# Altium schematic symbol library jlcpcb_2025_04_inductors_extended_0201.schlib: 459 symbols (part 9 of 9)
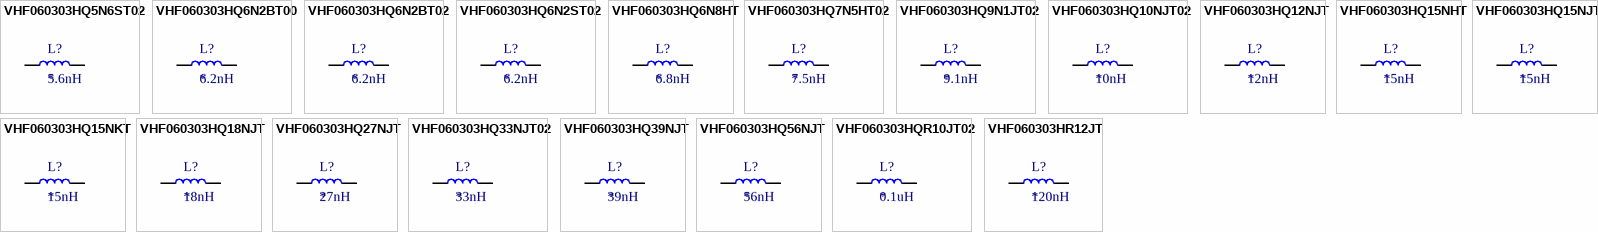
[diagram p19: symbols VHF060303HQ5N6ST02 to VHF060303HR12JT]

## VHF060303HQ6N2ST02
designator L?  Inductance: 6.2nH
Inductor, 6.2nH, 480mΩ, 250mA, SMD 0201; Manufacturer: FH (Guangdong Fenghua Advanced Tech); Manufacturer Part Number: VHF060303HQ6N2ST02; Self-Resonant Frequency: 5.1GHz; Q Factor: 14@500MHz; Package Size: 0201; JLCPCB Basic Part: No; JLCPCB Part Number: C516468; Supplier 1: LCSC; Category: Inductors; Supplier Part Number 1: C516468; Rated Current: 250mA; DC Resistance: 480mΩ; RoHS: Yes; ComponentLink1Description: Datasheet; ComponentLink1URL: https://wmsc.lcsc.com/wmsc/upload/file/pdf/v2/lcsc/2302231030_FH--Guangdong-Fenghua-Advanced-Tech-VHF060303HQ6N2ST02_C516468.pdf; ComponentLink2Description: JLCPCB Part URL; ComponentLink2URL: https://jlcpcb.com/partdetail/C516468; ComponentLink3Description: LCSC Part URL; ComponentLink3URL: https://lcsc.com/product-detail/Inductors-SMD_FH-Guangdong-Fenghua-Advanced-Tech-FH-Guangdong-Fenghua-Advanced-Tech-VHF060303HQ6N2ST02_C516468.html
footprint IND-0201 (0201 (0603M) Inductor)
pins: 1, 2

## VHF060303HQ6N8HT
designator L?  Inductance: 6.8nH
Inductor, 6.8nH, ±3%, 500mΩ, 200mA, SMD 0201; Manufacturer: FH (Guangdong Fenghua Advanced Tech); Manufacturer Part Number: VHF060303HQ6N8HT; Self-Resonant Frequency: 4.9GHz; Q Factor: 14@500MHz; Package Size: 0201; JLCPCB Basic Part: No; JLCPCB Part Number: C516466; Supplier 1: LCSC; Category: Inductors; Supplier Part Number 1: C516466; Tolerance: ±3%; Rated Current: 200mA; DC Resistance: 500mΩ; RoHS: Yes; ComponentLink1Description: Datasheet; ComponentLink1URL: https://wmsc.lcsc.com/wmsc/upload/file/pdf/v2/lcsc/2302231030_FH--Guangdong-Fenghua-Advanced-Tech-VHF060303HQ6N8HT_C516466.pdf; ComponentLink2Description: JLCPCB Part URL; ComponentLink2URL: https://jlcpcb.com/partdetail/C516466; ComponentLink3Description: LCSC Part URL; ComponentLink3URL: https://lcsc.com/product-detail/Inductors-SMD_FH-Guangdong-Fenghua-Advanced-Tech-FH-Guangdong-Fenghua-Advanced-Tech-VHF060303HQ6N8HT_C516466.html
footprint IND-0201 (0201 (0603M) Inductor)
pins: 1, 2

## VHF060303HQ7N5HT02
designator L?  Inductance: 7.5nH
Inductor, 7.5nH, ±3%, 500mΩ, 200mA, SMD 0201; Manufacturer: FH (Guangdong Fenghua Advanced Tech); Manufacturer Part Number: VHF060303HQ7N5HT02; Self-Resonant Frequency: 4.7GHz; Q Factor: 14@500MHz; Package Size: 0201; JLCPCB Basic Part: No; JLCPCB Part Number: C516452; Supplier 1: LCSC; Category: Inductors; Supplier Part Number 1: C516452; Tolerance: ±3%; Rated Current: 200mA; DC Resistance: 500mΩ; RoHS: Yes; ComponentLink1Description: Datasheet; ComponentLink1URL: https://wmsc.lcsc.com/wmsc/upload/file/pdf/v2/lcsc/2302231130_FH--Guangdong-Fenghua-Advanced-Tech-VHF060303HQ7N5HT02_C516452.pdf; ComponentLink2Description: JLCPCB Part URL; ComponentLink2URL: https://jlcpcb.com/partdetail/C516452; ComponentLink3Description: LCSC Part URL; ComponentLink3URL: https://lcsc.com/product-detail/Inductors-SMD_FH-Guangdong-Fenghua-Advanced-Tech-FH-Guangdong-Fenghua-Advanced-Tech-VHF060303HQ7N5HT02_C516452.html
footprint IND-0201 (0201 (0603M) Inductor)
pins: 1, 2

## VHF060303HQ9N1JT02
designator L?  Inductance: 9.1nH
Inductor, 9.1nH, ±5%, SMD 0201; Manufacturer: FH (Guangdong Fenghua Advanced Tech); Manufacturer Part Number: VHF060303HQ9N1JT02; Package Size: 0201; JLCPCB Basic Part: No; JLCPCB Part Number: C778440; Supplier 1: LCSC; Category: Inductors; Supplier Part Number 1: C778440; Tolerance: ±5%; RoHS: Yes; ComponentLink1Description: Datasheet; ComponentLink1URL: https://wmsc.lcsc.com/wmsc/upload/file/pdf/v2/lcsc/2302231030_FH--Guangdong-Fenghua-Advanced-Tech-VHF060303HQ9N1JT02_C778440.pdf; ComponentLink2Description: JLCPCB Part URL; ComponentLink2URL: https://jlcpcb.com/partdetail/C778440; ComponentLink3Description: LCSC Part URL; ComponentLink3URL: https://lcsc.com/product-detail/Inductors-SMD_FH-Guangdong-Fenghua-Advanced-Tech-FH-Guangdong-Fenghua-Advanced-Tech-VHF060303HQ9N1JT02_C778440.html
footprint IND-0201 (0201 (0603M) Inductor)
pins: 1, 2

## VHF060303HQ10NJT02
designator L?  Inductance: 10nH
Inductor, 10nH, ±5%, SMD 0201; Manufacturer: FH (Guangdong Fenghua Advanced Tech); Manufacturer Part Number: VHF060303HQ10NJT02; Package Size: 0201; JLCPCB Basic Part: No; JLCPCB Part Number: C778436; Supplier 1: LCSC; Category: Inductors; Supplier Part Number 1: C778436; Tolerance: ±5%; RoHS: Yes; ComponentLink1Description: Datasheet; ComponentLink1URL: https://wmsc.lcsc.com/wmsc/upload/file/pdf/v2/lcsc/2302231030_FH--Guangdong-Fenghua-Advanced-Tech-VHF060303HQ10NJT02_C778436.pdf; ComponentLink2Description: JLCPCB Part URL; ComponentLink2URL: https://jlcpcb.com/partdetail/C778436; ComponentLink3Description: LCSC Part URL; ComponentLink3URL: https://lcsc.com/product-detail/Inductors-SMD_FH-Guangdong-Fenghua-Advanced-Tech-FH-Guangdong-Fenghua-Advanced-Tech-VHF060303HQ10NJT02_C778436.html
footprint IND-0201 (0201 (0603M) Inductor)
pins: 1, 2

## VHF060303HQ12NJT
designator L?  Inductance: 12nH
Inductor, 12nH, ±5%, 800mΩ, 160mA, SMD 0201; Manufacturer: FH (Guangdong Fenghua Advanced Tech); Manufacturer Part Number: VHF060303HQ12NJT; Package Size: 0201; JLCPCB Basic Part: No; JLCPCB Part Number: C211332; Supplier 1: LCSC; Category: Inductors; Supplier Part Number 1: C211332; Tolerance: ±5%; Rated Current: 160mA; DC Resistance: 800mΩ; RoHS: Yes; ComponentLink1Description: Datasheet; ComponentLink1URL: https://wmsc.lcsc.com/wmsc/upload/file/pdf/v2/lcsc/2302231230_FH--Guangdong-Fenghua-Advanced-Tech-VHF060303HQ12NJT_C211332.pdf; ComponentLink2Description: JLCPCB Part URL; ComponentLink2URL: https://jlcpcb.com/partdetail/C211332; ComponentLink3Description: LCSC Part URL; ComponentLink3URL: https://lcsc.com/product-detail/Inductors-SMD_FH-Guangdong-Fenghua-Advanced-Tech-FH-Guangdong-Fenghua-Advanced-Tech-VHF060303HQ12NJT_C211332.html
footprint IND-0201 (0201 (0603M) Inductor)
pins: 1, 2

## VHF060303HQ15NHT
designator L?  Inductance: 15nH
Inductor, 15nH, ±3%, 850mΩ, 160mA, SMD 0201; Manufacturer: FH (Guangdong Fenghua Advanced Tech); Manufacturer Part Number: VHF060303HQ15NHT; Self-Resonant Frequency: 2.6GHz; Q Factor: 14@500MHz; Package Size: 0201; JLCPCB Basic Part: No; JLCPCB Part Number: C485781; Supplier 1: LCSC; Category: Inductors; Supplier Part Number 1: C485781; Tolerance: ±3%; Rated Current: 160mA; DC Resistance: 850mΩ; RoHS: Yes; ComponentLink1Description: Datasheet; ComponentLink1URL: https://wmsc.lcsc.com/wmsc/upload/file/pdf/v2/lcsc/2302231130_FH--Guangdong-Fenghua-Advanced-Tech-VHF060303HQ15NHT_C485781.pdf; ComponentLink2Description: JLCPCB Part URL; ComponentLink2URL: https://jlcpcb.com/partdetail/C485781; ComponentLink3Description: LCSC Part URL; ComponentLink3URL: https://lcsc.com/product-detail/Inductors-SMD_FH-Guangdong-Fenghua-Advanced-Tech-FH-Guangdong-Fenghua-Advanced-Tech-VHF060303HQ15NHT_C485781.html
footprint IND-0201 (0201 (0603M) Inductor)
pins: 1, 2

## VHF060303HQ15NJT
designator L?  Inductance: 15nH
Inductor, 15nH, ±5%, 850mΩ, 160mA, SMD 0201; Manufacturer: FH (Guangdong Fenghua Advanced Tech); Manufacturer Part Number: VHF060303HQ15NJT; Package Size: 0201; JLCPCB Basic Part: No; JLCPCB Part Number: C211333; Supplier 1: LCSC; Category: Inductors; Supplier Part Number 1: C211333; Tolerance: ±5%; Rated Current: 160mA; DC Resistance: 850mΩ; RoHS: Yes; ComponentLink1Description: Datasheet; ComponentLink1URL: https://wmsc.lcsc.com/wmsc/upload/file/pdf/v2/lcsc/2302231230_FH--Guangdong-Fenghua-Advanced-Tech-VHF060303HQ15NJT_C211333.pdf; ComponentLink2Description: JLCPCB Part URL; ComponentLink2URL: https://jlcpcb.com/partdetail/C211333; ComponentLink3Description: LCSC Part URL; ComponentLink3URL: https://lcsc.com/product-detail/Inductors-SMD_FH-Guangdong-Fenghua-Advanced-Tech-FH-Guangdong-Fenghua-Advanced-Tech-VHF060303HQ15NJT_C211333.html
footprint IND-0201 (0201 (0603M) Inductor)
pins: 1, 2

## VHF060303HQ15NKT
designator L?  Inductance: 15nH
Inductor, 15nH, ±10%, 850mΩ, 160mA, SMD 0201; Manufacturer: FH (Guangdong Fenghua Advanced Tech); Manufacturer Part Number: VHF060303HQ15NKT; Package Size: 0201; JLCPCB Basic Part: No; JLCPCB Part Number: C381787; Supplier 1: LCSC; Category: Inductors; Supplier Part Number 1: C381787; Tolerance: ±10%; Rated Current: 160mA; DC Resistance: 850mΩ; RoHS: Yes; ComponentLink1Description: Datasheet; ComponentLink1URL: https://wmsc.lcsc.com/wmsc/upload/file/pdf/v2/lcsc/2302231208_FH--Guangdong-Fenghua-Advanced-Tech-VHF060303HQ15NKT_C381787.pdf; ComponentLink2Description: JLCPCB Part URL; ComponentLink2URL: https://jlcpcb.com/partdetail/C381787; ComponentLink3Description: LCSC Part URL; ComponentLink3URL: https://lcsc.com/product-detail/Inductors-SMD_FH-Guangdong-Fenghua-Advanced-Tech-FH-Guangdong-Fenghua-Advanced-Tech-VHF060303HQ15NKT_C381787.html
footprint IND-0201 (0201 (0603M) Inductor)
pins: 1, 2

## VHF060303HQ18NJT
designator L?  Inductance: 18nH
Inductor, 18nH, ±5%, 1Ω, 140mA, SMD 0201; Manufacturer: FH (Guangdong Fenghua Advanced Tech); Manufacturer Part Number: VHF060303HQ18NJT; Package Size: 0201; JLCPCB Basic Part: No; JLCPCB Part Number: C211334; Supplier 1: LCSC; Category: Inductors; Supplier Part Number 1: C211334; Tolerance: ±5%; Rated Current: 140mA; DC Resistance: 1Ω; RoHS: Yes; ComponentLink1Description: Datasheet; ComponentLink1URL: https://wmsc.lcsc.com/wmsc/upload/file/pdf/v2/lcsc/2302231230_FH--Guangdong-Fenghua-Advanced-Tech-VHF060303HQ18NJT_C211334.pdf; ComponentLink2Description: JLCPCB Part URL; ComponentLink2URL: https://jlcpcb.com/partdetail/C211334; ComponentLink3Description: LCSC Part URL; ComponentLink3URL: https://lcsc.com/product-detail/Inductors-SMD_FH-Guangdong-Fenghua-Advanced-Tech-FH-Guangdong-Fenghua-Advanced-Tech-VHF060303HQ18NJT_C211334.html
footprint IND-0201 (0201 (0603M) Inductor)
pins: 1, 2

## VHF060303HQ27NJT
designator L?  Inductance: 27nH
Inductor, 27nH, ±5%, 1.6Ω, 120mA, SMD 0201; Manufacturer: FH (Guangdong Fenghua Advanced Tech); Manufacturer Part Number: VHF060303HQ27NJT; Package Size: 0201; JLCPCB Basic Part: No; JLCPCB Part Number: C211336; Supplier 1: LCSC; Category: Inductors; Supplier Part Number 1: C211336; Tolerance: ±5%; Rated Current: 120mA; DC Resistance: 1.6Ω; RoHS: Yes; ComponentLink1Description: Datasheet; ComponentLink1URL: https://wmsc.lcsc.com/wmsc/upload/file/pdf/v2/lcsc/2302231230_FH--Guangdong-Fenghua-Advanced-Tech-VHF060303HQ27NJT_C211336.pdf; ComponentLink2Description: JLCPCB Part URL; ComponentLink2URL: https://jlcpcb.com/partdetail/C211336; ComponentLink3Description: LCSC Part URL; ComponentLink3URL: https://lcsc.com/product-detail/Inductors-SMD_FH-Guangdong-Fenghua-Advanced-Tech-FH-Guangdong-Fenghua-Advanced-Tech-VHF060303HQ27NJT_C211336.html
footprint IND-0201 (0201 (0603M) Inductor)
pins: 1, 2

## VHF060303HQ33NJT02
designator L?  Inductance: 33nH
Inductor, 33nH, ±5%, SMD 0201; Manufacturer: FH (Guangdong Fenghua Advanced Tech); Manufacturer Part Number: VHF060303HQ33NJT02; Package Size: 0201; JLCPCB Basic Part: No; JLCPCB Part Number: C485792; Supplier 1: LCSC; Category: Inductors; Supplier Part Number 1: C485792; Tolerance: ±5%; RoHS: Yes; ComponentLink1Description: Datasheet; ComponentLink1URL: https://wmsc.lcsc.com/wmsc/upload/file/pdf/v2/lcsc/2302231130_FH--Guangdong-Fenghua-Advanced-Tech-VHF060303HQ33NJT02_C485792.pdf; ComponentLink2Description: JLCPCB Part URL; ComponentLink2URL: https://jlcpcb.com/partdetail/C485792; ComponentLink3Description: LCSC Part URL; ComponentLink3URL: https://lcsc.com/product-detail/Inductors-SMD_FH-Guangdong-Fenghua-Advanced-Tech-FH-Guangdong-Fenghua-Advanced-Tech-VHF060303HQ33NJT02_C485792.html
footprint IND-0201 (0201 (0603M) Inductor)
pins: 1, 2

## VHF060303HQ39NJT
designator L?  Inductance: 39nH
Inductor, 39nH, ±5%, 2.3Ω, 100mA, SMD 0201; Manufacturer: FH (Guangdong Fenghua Advanced Tech); Manufacturer Part Number: VHF060303HQ39NJT; Package Size: 0201; JLCPCB Basic Part: No; JLCPCB Part Number: C211338; Supplier 1: LCSC; Category: Inductors; Supplier Part Number 1: C211338; Tolerance: ±5%; Rated Current: 100mA; DC Resistance: 2.3Ω; RoHS: Yes; ComponentLink1Description: Datasheet; ComponentLink1URL: https://wmsc.lcsc.com/wmsc/upload/file/pdf/v2/lcsc/2302231230_FH--Guangdong-Fenghua-Advanced-Tech-VHF060303HQ39NJT_C211338.pdf; ComponentLink2Description: JLCPCB Part URL; ComponentLink2URL: https://jlcpcb.com/partdetail/C211338; ComponentLink3Description: LCSC Part URL; ComponentLink3URL: https://lcsc.com/product-detail/Inductors-SMD_FH-Guangdong-Fenghua-Advanced-Tech-FH-Guangdong-Fenghua-Advanced-Tech-VHF060303HQ39NJT_C211338.html
footprint IND-0201 (0201 (0603M) Inductor)
pins: 1, 2

## VHF060303HQ56NJT
designator L?  Inductance: 56nH
Inductor, 56nH, ±5%, 2.8Ω, 80mA, SMD 0201; Manufacturer: FH (Guangdong Fenghua Advanced Tech); Manufacturer Part Number: VHF060303HQ56NJT; Package Size: 0201; JLCPCB Basic Part: No; JLCPCB Part Number: C381754; Supplier 1: LCSC; Category: Inductors; Supplier Part Number 1: C381754; Tolerance: ±5%; Rated Current: 80mA; DC Resistance: 2.8Ω; RoHS: Yes; ComponentLink1Description: Datasheet; ComponentLink1URL: https://wmsc.lcsc.com/wmsc/upload/file/pdf/v2/lcsc/2302231208_FH--Guangdong-Fenghua-Advanced-Tech-VHF060303HQ56NJT_C381754.pdf; ComponentLink2Description: JLCPCB Part URL; ComponentLink2URL: https://jlcpcb.com/partdetail/C381754; ComponentLink3Description: LCSC Part URL; ComponentLink3URL: https://lcsc.com/product-detail/Inductors-SMD_FH-Guangdong-Fenghua-Advanced-Tech-FH-Guangdong-Fenghua-Advanced-Tech-VHF060303HQ56NJT_C381754.html
footprint IND-0201 (0201 (0603M) Inductor)
pins: 1, 2

## VHF060303HQR10JT02
designator L?  Inductance: 0.1uH
Inductor, 0.1uH, ±5%, SMD 0201; Manufacturer: FH (Guangdong Fenghua Advanced Tech); Manufacturer Part Number: VHF060303HQR10JT02; Package Size: 0201; JLCPCB Basic Part: No; JLCPCB Part Number: C778432; Supplier 1: LCSC; Category: Inductors; Supplier Part Number 1: C778432; Tolerance: ±5%; RoHS: Yes; ComponentLink1Description: Datasheet; ComponentLink1URL: https://wmsc.lcsc.com/wmsc/upload/file/pdf/v2/lcsc/2302231030_FH--Guangdong-Fenghua-Advanced-Tech-VHF060303HQR10JT02_C778432.pdf; ComponentLink2Description: JLCPCB Part URL; ComponentLink2URL: https://jlcpcb.com/partdetail/C778432; ComponentLink3Description: LCSC Part URL; ComponentLink3URL: https://lcsc.com/product-detail/Inductors-SMD_FH-Guangdong-Fenghua-Advanced-Tech-FH-Guangdong-Fenghua-Advanced-Tech-VHF060303HQR10JT02_C778432.html
footprint IND-0201 (0201 (0603M) Inductor)
pins: 1, 2

## VHF060303HR12JT
designator L?  Inductance: 120nH
Inductor, 120nH, ±5%, 4Ω, 50mA, SMD 0201; Manufacturer: FH (Guangdong Fenghua Advanced Tech); Manufacturer Part Number: VHF060303HR12JT; Package Size: 0201; JLCPCB Basic Part: No; JLCPCB Part Number: C381667; Supplier 1: LCSC; Category: Inductors; Supplier Part Number 1: C381667; Tolerance: ±5%; Rated Current: 50mA; DC Resistance: 4Ω; RoHS: Yes; ComponentLink1Description: Datasheet; ComponentLink1URL: https://wmsc.lcsc.com/wmsc/upload/file/pdf/v2/lcsc/2304140030_FH--Guangdong-Fenghua-Advanced-Tech-VHF060303HR12JT_C381667.pdf; ComponentLink2Description: JLCPCB Part URL; ComponentLink2URL: https://jlcpcb.com/partdetail/C381667; ComponentLink3Description: LCSC Part URL; ComponentLink3URL: https://lcsc.com/product-detail/Inductors-SMD_FH-Guangdong-Fenghua-Advanced-Tech-FH-Guangdong-Fenghua-Advanced-Tech-VHF060303HR12JT_C381667.html
footprint IND-0201 (0201 (0603M) Inductor)
pins: 1, 2